# EAGLE library part 2514-6002-* (library 3M)
14-Pin Shrouded Header 2500 Series 14-Pin Four-Wall Header .100" x .100" Spacing Low Profile Straight Through-Hole For .062" thick board Vertical UG = 15µ [0.38µm] Gold with 200µ [5.08µm] 60:40 Tin-Lead Solder Tails (RIA E3 & C2 apply) UB = 30µ [0.76µm] Gold with 200µ [5.05µm] 60:40 Tin-Lead Solder Tails (RIA E3 & C2 apply) RB = 30µ [0.76µm] Gold with 200µ [5.08µm] Matte Tin Solder Tails (RIA E1 & C1 apply) From 3M document TS-0770-E, dated March 24, 2008 http://www.3m.com/interconnects/
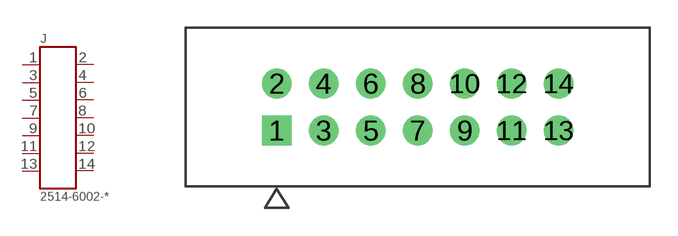
[diagram p0: symbol with the pads of 14POS; footprint 14POS]

Designator prefix J

## 2514-6002-  [14POS]
1  1  pas
2  2  pas
3  3  pas
4  4  pas
5  5  pas
6  6  pas
7  7  pas
8  8  pas
9  9  pas
10  10  pas
11  11  pas
12  12  pas
13  13  pas
14  14  pas

## 2514-6002-UG  [14POS]
Pads as for 14POS

## 2514-6002-UB  [14POS]
Pads as for 14POS

## 2514-6002-RB  [14POS]
Pads as for 14POS

## Footprint 14POS (pad centres in mm)
drill 1.067 square: 1 -7.62,-1.27
drill 1.067 round: 2 -7.62,1.27; 3 -5.08,-1.27; 4 -5.08,1.27; 5 -2.54,-1.27; 6 -2.54,1.27; 7 0,-1.27; 8 0,1.27; 9 2.54,-1.27; 10 2.54,1.27; 11 5.08,-1.27; 12 5.08,1.27; 13 7.62,-1.27; 14 7.62,1.27